# Altium footprint library CMI-9605IC-0380T.PcbLib: 1 footprints
Each footprint in its own frame and in the unit in brackets; x right, y up, seen from the top. Pads: shape width x height; smd on the part's side, far side on the other; paste and mask are expansions set on the pad; w line width, h text height; cw(c..) or ccw(c..) is an arc to the next point about the centre after c.
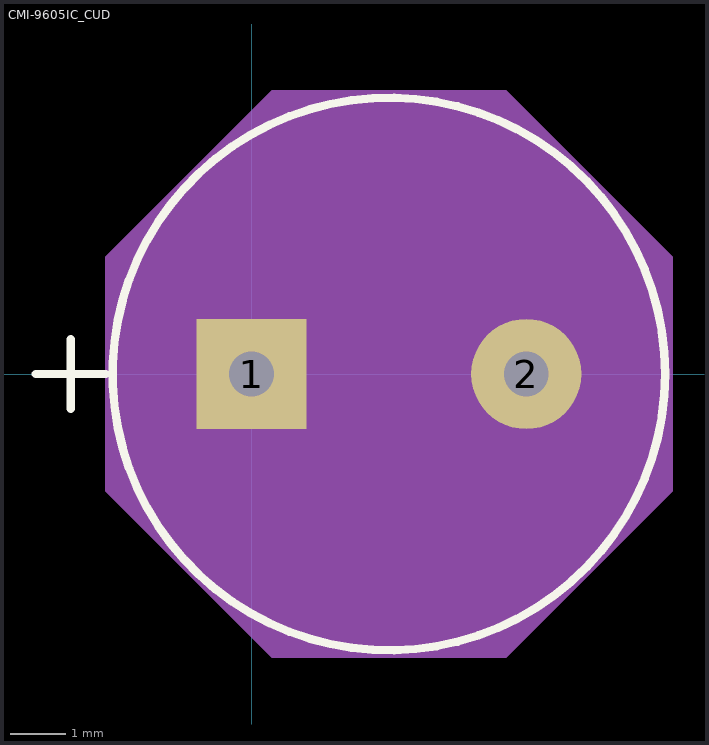
[diagram p0: the footprint, top view; thin cyan lines are the x and y axes]

## CMI-9605IC_CUD [mil]
pads (2):
  rect 79x79 / inner round 60 / far side rect 79x79 hole 32 paste-39.5 mask+0: 1(0,0)
  round 79 / inner round 60 / far side round 79 hole 32 paste-39.5 mask+0: 2(196.85,0)
Top Overlay:
  circle w6: c98.43,0 r198
  lines w6: -154.57,0 -104.57,0 ; -129.57,-25 -129.57,25
Mechanical 13:
  circle w0: c98.43,0 r193
  lines w1: -154.57,0 -104.57,0 ; -129.57,-25 -129.57,25
Mechanical 15:
  region: -104.57,83.59 14.84,203 182.01,203 301.43,83.59 301.43,-83.59 182.01,-203 14.84,-203 -104.57,-83.59
  lines w1: -104.57,-83.59 14.84,-203 182.01,-203 301.43,-83.59 301.43,83.59 182.01,203 14.84,203 -104.57,83.59 -104.57,-83.59
3D body "CMI-9605IC_CUD.step": height 187.6, standoff -165.98, extent -94.57,-193 292.41,193